# Altium integrated library Analog Devices Data Converters Analog-to-Digital Converters.IntLib: 2400 symbols (part 319 of 338)
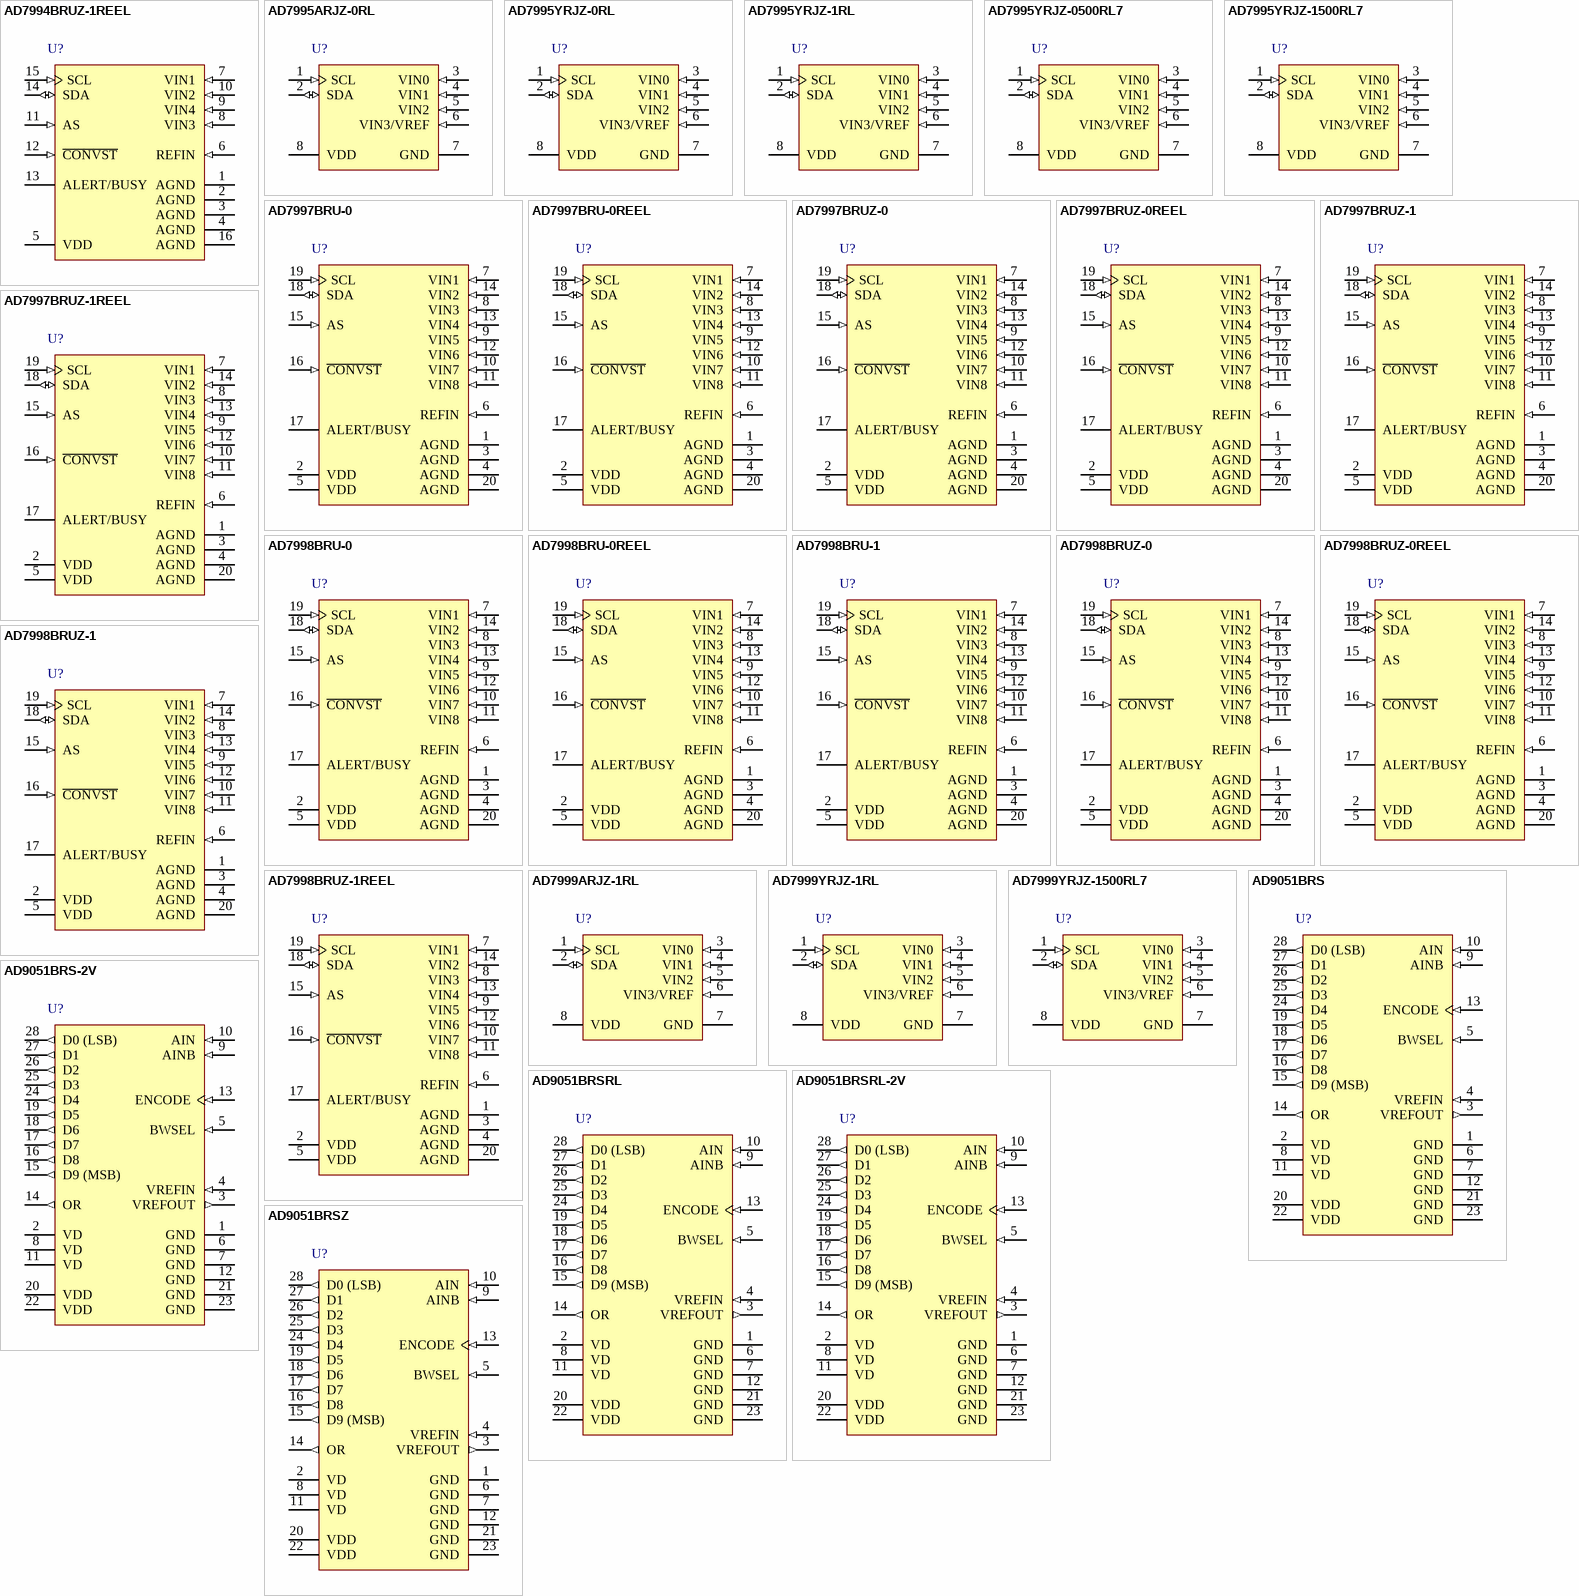
[diagram p329: symbols AD7994BRUZ-1REEL to AD9051BRSZ]

## AD7997BRUZ-1REEL
designator U?
Octal 10-Bit Analog-to-Digital Converter with I2C / Serial 2-Wire, Serial Interface, 79KSPS, -40 to +85 degC, RU-20, Pb-Free, Reel; Part Number: AD7997; Manufacturer: Analog Devices; Resolution (Bits): 10; Channels: 8; Throughput Rate (SPS): 79K; Interface: I2C/Ser 2-Wire, Ser; DatasheetVersion: Rev.0; PackageVersion: 2000; PackageReference: RU-20; PackageDescription: 20-Lead Thin Shrink Small Outline Package [TSSOP]; RoHS: Y; Packing: Reel; Mounting Technology: Surface Mount; Code_JEDEC: MO-153AC; ComponentLink1Description: Manufacturer URL; ComponentLink1URL: http://www.analog.com/en/index.html; ComponentLink2Description: Datasheet; ComponentLink2URL: http://www.analog.com/static/imported-files/data_sheets/AD7997_7998.pdf; ComponentLink3Description: Package Specification; ComponentLink3URL: http://www.analog.com/static/imported-files/packages/364515793657813558433715854054607941441RU20.pdf; ComponentLink4Description: Product URL; ComponentLink4URL: http://www.analog.com/en/analog-to-digital-converters/ad-converters/ad7997/products/product.html
footprint RU-20_N (TSOP, 20-Leads, Body 6.5x4.4mm, Pitch 0.65mm, IPC Medium Density)
footprint RU-20_L (TSOP, 20-Leads, Body 6.5x4.4mm, Pitch 0.65mm, IPC High Density)
footprint RU-20_M (TSOP, 20-Leads, Body 6.5x4.4mm, Pitch 0.65mm, IPC Low Density)
pins: 1 AGND (power) "Analog Ground. Ground reference point for all circuitry on the AD7997/AD7998. All analog input signals should be referred to this AGND voltage.", 2 VDD (power) "Power Supply Input. The VDD range for the AD7997/AD7998 is from 2.7 V to 5.5 V.", 3 AGND (power) "Analog Ground. Ground reference point for all circuitry on the AD7997/AD7998. All analog input signals should be referred to this AGND voltage.", 4 AGND (power) "Analog Ground. Ground reference point for all circuitry on the AD7997/AD7998. All analog input signals should be referred to this AGND voltage.", 5 VDD (power) "Power Supply Input. The VDD range for the AD7997/AD7998 is from 2.7 V to 5.5 V.", 6 REFIN (in) "Voltage Reference Input. The external reference for the AD7997/AD7998 should be applied to this input pin. The voltage range for the external reference is 1.2 V to VDD. A 0.1 uF and 1 uF capacitors should be placed between (See Datasheet)", 7 VIN1 (in) "Analog Input 1. Single-ended analog input channel. The input range is 0 V to REFIN.", 8 VIN3 (in) "Analog Input 3. Single-ended analog input channel. The input range is 0 V to REFIN.", 9 VIN5 (in) "Analog Input 5. Single-ended analog input channel. The input range is 0 V to REFIN.", 10 VIN7 (in) "Analog Input 7. Single-ended analog input channel. The input range is 0 V to REFIN.", 11 VIN8 (in) "Analog Input 8. Single-ended analog input channel. The input range is 0 V to REFIN.", 12 VIN6 (in) "Analog Input 6. Single-ended analog input channel. The input range is 0 V to REFIN.", 13 VIN4 (in) "Analog Input 4. Single-ended analog input channel. The input range is 0 V to REFIN.", 14 VIN2 (in) "Analog Input 2. Single-ended analog input channel. The input range is 0 V to REFIN.", 15 AS (in) "Logic Input. Address select input that selects one of three I2C addresses for the AD7997/AD7998, as shown in Table 6. The device address depends on the voltage applied to this pin.", 16 ~{CONVST} (in) "Logic Input Signal. Convert start signal. This is an edge-triggered logic input. The rising edge of this signal powers up the part. The power-up time for the part is 1 us. The falling edge of C\O\N\V\S\T\ places the (See Datasheet)", 17 ALERT/BUSY (oc) "Digital Output. Selectable as an ALERT or BUSY output function. When configured as an ALERT, this pin acts as an out-of-range indicator and, if enabled, becomes active when the conversion result violates the DATAHIGH or (See Datasheet)", 18 SDA (io) "Digital I/O. Serial bus bidirectional data. Open-drain output. External pull-up resistor required.", 19 SCL (in) "Digital Input. Serial bus clock. Open-drain input. External pull-up resistor required.", 20 AGND (power) "Analog Ground. Ground reference point for all circuitry on the AD7997/AD7998. All analog input signals should be referred to this AGND voltage."

## AD7998BRU-0
designator U?
Octal 12-Bit Analog-to-Digital Converter with I2C / Serial 2-Wire, Serialial Interface, 79KSPS, -40 to +85 degC, RU-20, Tube; Part Number: AD7998; Manufacturer: Analog Devices; Resolution (Bits): 12; Channels: 8; Throughput Rate (SPS): 79K; Interface: I2C/Ser 2-Wire, Ser; DatasheetVersion: Rev.0; PackageVersion: 2000; PackageReference: RU-20; PackageDescription: 20-Lead Thin Shrink Small Outline Package [TSSOP]; RoHS: N; Packing: Tube; Mounting Technology: Surface Mount; Code_JEDEC: MO-153AC; ComponentLink1Description: Manufacturer URL; ComponentLink1URL: http://www.analog.com/en/index.html; ComponentLink2Description: Datasheet; ComponentLink2URL: http://www.analog.com/static/imported-files/data_sheets/AD7997_7998.pdf; ComponentLink3Description: Package Specification; ComponentLink3URL: http://www.analog.com/static/imported-files/packages/364515793657813558433715854054607941441RU20.pdf; ComponentLink4Description: Product URL; ComponentLink4URL: http://www.analog.com/en/analog-to-digital-converters/ad-converters/ad7998/products/product.html
footprint RU-20_N (TSOP, 20-Leads, Body 6.5x4.4mm, Pitch 0.65mm, IPC Medium Density)
footprint RU-20_L (TSOP, 20-Leads, Body 6.5x4.4mm, Pitch 0.65mm, IPC High Density)
footprint RU-20_M (TSOP, 20-Leads, Body 6.5x4.4mm, Pitch 0.65mm, IPC Low Density)
pins: 1 AGND (power) "Analog Ground. Ground reference point for all circuitry on the AD7997/AD7998. All analog input signals should be referred to this AGND voltage.", 2 VDD (power) "Power Supply Input. The VDD range for the AD7997/AD7998 is from 2.7 V to 5.5 V.", 3 AGND (power) "Analog Ground. Ground reference point for all circuitry on the AD7997/AD7998. All analog input signals should be referred to this AGND voltage.", 4 AGND (power) "Analog Ground. Ground reference point for all circuitry on the AD7997/AD7998. All analog input signals should be referred to this AGND voltage.", 5 VDD (power) "Power Supply Input. The VDD range for the AD7997/AD7998 is from 2.7 V to 5.5 V.", 6 REFIN (in) "Voltage Reference Input. The external reference for the AD7997/AD7998 should be applied to this input pin. The voltage range for the external reference is 1.2 V to VDD. A 0.1 uF and 1 uF capacitors should be placed between (See Datasheet)", 7 VIN1 (in) "Analog Input 1. Single-ended analog input channel. The input range is 0 V to REFIN.", 8 VIN3 (in) "Analog Input 3. Single-ended analog input channel. The input range is 0 V to REFIN.", 9 VIN5 (in) "Analog Input 5. Single-ended analog input channel. The input range is 0 V to REFIN.", 10 VIN7 (in) "Analog Input 7. Single-ended analog input channel. The input range is 0 V to REFIN.", 11 VIN8 (in) "Analog Input 8. Single-ended analog input channel. The input range is 0 V to REFIN.", 12 VIN6 (in) "Analog Input 6. Single-ended analog input channel. The input range is 0 V to REFIN.", 13 VIN4 (in) "Analog Input 4. Single-ended analog input channel. The input range is 0 V to REFIN.", 14 VIN2 (in) "Analog Input 2. Single-ended analog input channel. The input range is 0 V to REFIN.", 15 AS (in) "Logic Input. Address select input that selects one of three I2C addresses for the AD7997/AD7998, as shown in Table 6. The device address depends on the voltage applied to this pin.", 16 ~{CONVST} (in) "Logic Input Signal. Convert start signal. This is an edge-triggered logic input. The rising edge of this signal powers up the part. The power-up time for the part is 1 us. The falling edge of C\O\N\V\S\T\ places the (See Datasheet)", 17 ALERT/BUSY (oc) "Digital Output. Selectable as an ALERT or BUSY output function. When configured as an ALERT, this pin acts as an out-of-range indicator and, if enabled, becomes active when the conversion result violates the DATAHIGH or (See Datasheet)", 18 SDA (io) "Digital I/O. Serial bus bidirectional data. Open-drain output. External pull-up resistor required.", 19 SCL (in) "Digital Input. Serial bus clock. Open-drain input. External pull-up resistor required.", 20 AGND (power) "Analog Ground. Ground reference point for all circuitry on the AD7997/AD7998. All analog input signals should be referred to this AGND voltage."

## AD7998BRU-0REEL
designator U?
Octal 12-Bit Analog-to-Digital Converter with I2C / Serial 2-Wire, Serialial Interface, 79KSPS, -40 to +85 degC, RU-20, Reel; Part Number: AD7998; Manufacturer: Analog Devices; Resolution (Bits): 12; Channels: 8; Throughput Rate (SPS): 79K; Interface: I2C/Ser 2-Wire, Ser; DatasheetVersion: Rev.0; PackageVersion: 2000; PackageReference: RU-20; PackageDescription: 20-Lead Thin Shrink Small Outline Package [TSSOP]; RoHS: N; Packing: Reel; Mounting Technology: Surface Mount; Code_JEDEC: MO-153AC; ComponentLink1Description: Manufacturer URL; ComponentLink1URL: http://www.analog.com/en/index.html; ComponentLink2Description: Datasheet; ComponentLink2URL: http://www.analog.com/static/imported-files/data_sheets/AD7997_7998.pdf; ComponentLink3Description: Package Specification; ComponentLink3URL: http://www.analog.com/static/imported-files/packages/364515793657813558433715854054607941441RU20.pdf; ComponentLink4Description: Product URL; ComponentLink4URL: http://www.analog.com/en/analog-to-digital-converters/ad-converters/ad7998/products/product.html
footprint RU-20_N (TSOP, 20-Leads, Body 6.5x4.4mm, Pitch 0.65mm, IPC Medium Density)
footprint RU-20_L (TSOP, 20-Leads, Body 6.5x4.4mm, Pitch 0.65mm, IPC High Density)
footprint RU-20_M (TSOP, 20-Leads, Body 6.5x4.4mm, Pitch 0.65mm, IPC Low Density)
pins: 1 AGND (power) "Analog Ground. Ground reference point for all circuitry on the AD7997/AD7998. All analog input signals should be referred to this AGND voltage.", 2 VDD (power) "Power Supply Input. The VDD range for the AD7997/AD7998 is from 2.7 V to 5.5 V.", 3 AGND (power) "Analog Ground. Ground reference point for all circuitry on the AD7997/AD7998. All analog input signals should be referred to this AGND voltage.", 4 AGND (power) "Analog Ground. Ground reference point for all circuitry on the AD7997/AD7998. All analog input signals should be referred to this AGND voltage.", 5 VDD (power) "Power Supply Input. The VDD range for the AD7997/AD7998 is from 2.7 V to 5.5 V.", 6 REFIN (in) "Voltage Reference Input. The external reference for the AD7997/AD7998 should be applied to this input pin. The voltage range for the external reference is 1.2 V to VDD. A 0.1 uF and 1 uF capacitors should be placed between (See Datasheet)", 7 VIN1 (in) "Analog Input 1. Single-ended analog input channel. The input range is 0 V to REFIN.", 8 VIN3 (in) "Analog Input 3. Single-ended analog input channel. The input range is 0 V to REFIN.", 9 VIN5 (in) "Analog Input 5. Single-ended analog input channel. The input range is 0 V to REFIN.", 10 VIN7 (in) "Analog Input 7. Single-ended analog input channel. The input range is 0 V to REFIN.", 11 VIN8 (in) "Analog Input 8. Single-ended analog input channel. The input range is 0 V to REFIN.", 12 VIN6 (in) "Analog Input 6. Single-ended analog input channel. The input range is 0 V to REFIN.", 13 VIN4 (in) "Analog Input 4. Single-ended analog input channel. The input range is 0 V to REFIN.", 14 VIN2 (in) "Analog Input 2. Single-ended analog input channel. The input range is 0 V to REFIN.", 15 AS (in) "Logic Input. Address select input that selects one of three I2C addresses for the AD7997/AD7998, as shown in Table 6. The device address depends on the voltage applied to this pin.", 16 ~{CONVST} (in) "Logic Input Signal. Convert start signal. This is an edge-triggered logic input. The rising edge of this signal powers up the part. The power-up time for the part is 1 us. The falling edge of C\O\N\V\S\T\ places the (See Datasheet)", 17 ALERT/BUSY (oc) "Digital Output. Selectable as an ALERT or BUSY output function. When configured as an ALERT, this pin acts as an out-of-range indicator and, if enabled, becomes active when the conversion result violates the DATAHIGH or (See Datasheet)", 18 SDA (io) "Digital I/O. Serial bus bidirectional data. Open-drain output. External pull-up resistor required.", 19 SCL (in) "Digital Input. Serial bus clock. Open-drain input. External pull-up resistor required.", 20 AGND (power) "Analog Ground. Ground reference point for all circuitry on the AD7997/AD7998. All analog input signals should be referred to this AGND voltage."

## AD7998BRU-1
designator U?
Octal 12-Bit Analog-to-Digital Converter with I2C / Serial 2-Wire, Serialial Interface, 79KSPS, -40 to +85 degC, RU-20, Tube; Part Number: AD7998; Manufacturer: Analog Devices; Resolution (Bits): 12; Channels: 8; Throughput Rate (SPS): 79K; Interface: I2C/Ser 2-Wire, Ser; DatasheetVersion: Rev.0; PackageVersion: 2000; PackageReference: RU-20; PackageDescription: 20-Lead Thin Shrink Small Outline Package [TSSOP]; RoHS: N; Packing: Tube; Mounting Technology: Surface Mount; Code_JEDEC: MO-153AC; ComponentLink1Description: Manufacturer URL; ComponentLink1URL: http://www.analog.com/en/index.html; ComponentLink2Description: Datasheet; ComponentLink2URL: http://www.analog.com/static/imported-files/data_sheets/AD7997_7998.pdf; ComponentLink3Description: Package Specification; ComponentLink3URL: http://www.analog.com/static/imported-files/packages/364515793657813558433715854054607941441RU20.pdf; ComponentLink4Description: Product URL; ComponentLink4URL: http://www.analog.com/en/analog-to-digital-converters/ad-converters/ad7998/products/product.html
footprint RU-20_N (TSOP, 20-Leads, Body 6.5x4.4mm, Pitch 0.65mm, IPC Medium Density)
footprint RU-20_L (TSOP, 20-Leads, Body 6.5x4.4mm, Pitch 0.65mm, IPC High Density)
footprint RU-20_M (TSOP, 20-Leads, Body 6.5x4.4mm, Pitch 0.65mm, IPC Low Density)
pins: 1 AGND (power) "Analog Ground. Ground reference point for all circuitry on the AD7997/AD7998. All analog input signals should be referred to this AGND voltage.", 2 VDD (power) "Power Supply Input. The VDD range for the AD7997/AD7998 is from 2.7 V to 5.5 V.", 3 AGND (power) "Analog Ground. Ground reference point for all circuitry on the AD7997/AD7998. All analog input signals should be referred to this AGND voltage.", 4 AGND (power) "Analog Ground. Ground reference point for all circuitry on the AD7997/AD7998. All analog input signals should be referred to this AGND voltage.", 5 VDD (power) "Power Supply Input. The VDD range for the AD7997/AD7998 is from 2.7 V to 5.5 V.", 6 REFIN (in) "Voltage Reference Input. The external reference for the AD7997/AD7998 should be applied to this input pin. The voltage range for the external reference is 1.2 V to VDD. A 0.1 uF and 1 uF capacitors should be placed between (See Datasheet)", 7 VIN1 (in) "Analog Input 1. Single-ended analog input channel. The input range is 0 V to REFIN.", 8 VIN3 (in) "Analog Input 3. Single-ended analog input channel. The input range is 0 V to REFIN.", 9 VIN5 (in) "Analog Input 5. Single-ended analog input channel. The input range is 0 V to REFIN.", 10 VIN7 (in) "Analog Input 7. Single-ended analog input channel. The input range is 0 V to REFIN.", 11 VIN8 (in) "Analog Input 8. Single-ended analog input channel. The input range is 0 V to REFIN.", 12 VIN6 (in) "Analog Input 6. Single-ended analog input channel. The input range is 0 V to REFIN.", 13 VIN4 (in) "Analog Input 4. Single-ended analog input channel. The input range is 0 V to REFIN.", 14 VIN2 (in) "Analog Input 2. Single-ended analog input channel. The input range is 0 V to REFIN.", 15 AS (in) "Logic Input. Address select input that selects one of three I2C addresses for the AD7997/AD7998, as shown in Table 6. The device address depends on the voltage applied to this pin.", 16 ~{CONVST} (in) "Logic Input Signal. Convert start signal. This is an edge-triggered logic input. The rising edge of this signal powers up the part. The power-up time for the part is 1 us. The falling edge of C\O\N\V\S\T\ places the (See Datasheet)", 17 ALERT/BUSY (oc) "Digital Output. Selectable as an ALERT or BUSY output function. When configured as an ALERT, this pin acts as an out-of-range indicator and, if enabled, becomes active when the conversion result violates the DATAHIGH or (See Datasheet)", 18 SDA (io) "Digital I/O. Serial bus bidirectional data. Open-drain output. External pull-up resistor required.", 19 SCL (in) "Digital Input. Serial bus clock. Open-drain input. External pull-up resistor required.", 20 AGND (power) "Analog Ground. Ground reference point for all circuitry on the AD7997/AD7998. All analog input signals should be referred to this AGND voltage."

## AD7998BRUZ-0
designator U?
Octal 12-Bit Analog-to-Digital Converter with I2C / Serial 2-Wire, Serialial Interface, 79KSPS, -40 to +85 degC, RU-20, Pb-Free, Tube; Part Number: AD7998; Manufacturer: Analog Devices; Resolution (Bits): 12; Channels: 8; Throughput Rate (SPS): 79K; Interface: I2C/Ser 2-Wire, Ser; DatasheetVersion: Rev.0; PackageVersion: 2000; PackageReference: RU-20; PackageDescription: 20-Lead Thin Shrink Small Outline Package [TSSOP]; RoHS: Y; Packing: Tube; Mounting Technology: Surface Mount; Code_JEDEC: MO-153AC; ComponentLink1Description: Manufacturer URL; ComponentLink1URL: http://www.analog.com/en/index.html; ComponentLink2Description: Datasheet; ComponentLink2URL: http://www.analog.com/static/imported-files/data_sheets/AD7997_7998.pdf; ComponentLink3Description: Package Specification; ComponentLink3URL: http://www.analog.com/static/imported-files/packages/364515793657813558433715854054607941441RU20.pdf; ComponentLink4Description: Product URL; ComponentLink4URL: http://www.analog.com/en/analog-to-digital-converters/ad-converters/ad7998/products/product.html
footprint RU-20_N (TSOP, 20-Leads, Body 6.5x4.4mm, Pitch 0.65mm, IPC Medium Density)
footprint RU-20_L (TSOP, 20-Leads, Body 6.5x4.4mm, Pitch 0.65mm, IPC High Density)
footprint RU-20_M (TSOP, 20-Leads, Body 6.5x4.4mm, Pitch 0.65mm, IPC Low Density)
pins: 1 AGND (power) "Analog Ground. Ground reference point for all circuitry on the AD7997/AD7998. All analog input signals should be referred to this AGND voltage.", 2 VDD (power) "Power Supply Input. The VDD range for the AD7997/AD7998 is from 2.7 V to 5.5 V.", 3 AGND (power) "Analog Ground. Ground reference point for all circuitry on the AD7997/AD7998. All analog input signals should be referred to this AGND voltage.", 4 AGND (power) "Analog Ground. Ground reference point for all circuitry on the AD7997/AD7998. All analog input signals should be referred to this AGND voltage.", 5 VDD (power) "Power Supply Input. The VDD range for the AD7997/AD7998 is from 2.7 V to 5.5 V.", 6 REFIN (in) "Voltage Reference Input. The external reference for the AD7997/AD7998 should be applied to this input pin. The voltage range for the external reference is 1.2 V to VDD. A 0.1 uF and 1 uF capacitors should be placed between (See Datasheet)", 7 VIN1 (in) "Analog Input 1. Single-ended analog input channel. The input range is 0 V to REFIN.", 8 VIN3 (in) "Analog Input 3. Single-ended analog input channel. The input range is 0 V to REFIN.", 9 VIN5 (in) "Analog Input 5. Single-ended analog input channel. The input range is 0 V to REFIN.", 10 VIN7 (in) "Analog Input 7. Single-ended analog input channel. The input range is 0 V to REFIN.", 11 VIN8 (in) "Analog Input 8. Single-ended analog input channel. The input range is 0 V to REFIN.", 12 VIN6 (in) "Analog Input 6. Single-ended analog input channel. The input range is 0 V to REFIN.", 13 VIN4 (in) "Analog Input 4. Single-ended analog input channel. The input range is 0 V to REFIN.", 14 VIN2 (in) "Analog Input 2. Single-ended analog input channel. The input range is 0 V to REFIN.", 15 AS (in) "Logic Input. Address select input that selects one of three I2C addresses for the AD7997/AD7998, as shown in Table 6. The device address depends on the voltage applied to this pin.", 16 ~{CONVST} (in) "Logic Input Signal. Convert start signal. This is an edge-triggered logic input. The rising edge of this signal powers up the part. The power-up time for the part is 1 us. The falling edge of C\O\N\V\S\T\ places the (See Datasheet)", 17 ALERT/BUSY (oc) "Digital Output. Selectable as an ALERT or BUSY output function. When configured as an ALERT, this pin acts as an out-of-range indicator and, if enabled, becomes active when the conversion result violates the DATAHIGH or (See Datasheet)", 18 SDA (io) "Digital I/O. Serial bus bidirectional data. Open-drain output. External pull-up resistor required.", 19 SCL (in) "Digital Input. Serial bus clock. Open-drain input. External pull-up resistor required.", 20 AGND (power) "Analog Ground. Ground reference point for all circuitry on the AD7997/AD7998. All analog input signals should be referred to this AGND voltage."

## AD7998BRUZ-0REEL
designator U?
Octal 12-Bit Analog-to-Digital Converter with I2C / Serial 2-Wire, Serialial Interface, 79KSPS, -40 to +85 degC, RU-20, Pb-Free, Reel; Part Number: AD7998; Manufacturer: Analog Devices; Resolution (Bits): 12; Channels: 8; Throughput Rate (SPS): 79K; Interface: I2C/Ser 2-Wire, Ser; DatasheetVersion: Rev.0; PackageVersion: 2000; PackageReference: RU-20; PackageDescription: 20-Lead Thin Shrink Small Outline Package [TSSOP]; RoHS: Y; Packing: Reel; Mounting Technology: Surface Mount; Code_JEDEC: MO-153AC; ComponentLink1Description: Manufacturer URL; ComponentLink1URL: http://www.analog.com/en/index.html; ComponentLink2Description: Datasheet; ComponentLink2URL: http://www.analog.com/static/imported-files/data_sheets/AD7997_7998.pdf; ComponentLink3Description: Package Specification; ComponentLink3URL: http://www.analog.com/static/imported-files/packages/364515793657813558433715854054607941441RU20.pdf; ComponentLink4Description: Product URL; ComponentLink4URL: http://www.analog.com/en/analog-to-digital-converters/ad-converters/ad7998/products/product.html
footprint RU-20_N (TSOP, 20-Leads, Body 6.5x4.4mm, Pitch 0.65mm, IPC Medium Density)
footprint RU-20_L (TSOP, 20-Leads, Body 6.5x4.4mm, Pitch 0.65mm, IPC High Density)
footprint RU-20_M (TSOP, 20-Leads, Body 6.5x4.4mm, Pitch 0.65mm, IPC Low Density)
pins: 1 AGND (power) "Analog Ground. Ground reference point for all circuitry on the AD7997/AD7998. All analog input signals should be referred to this AGND voltage.", 2 VDD (power) "Power Supply Input. The VDD range for the AD7997/AD7998 is from 2.7 V to 5.5 V.", 3 AGND (power) "Analog Ground. Ground reference point for all circuitry on the AD7997/AD7998. All analog input signals should be referred to this AGND voltage.", 4 AGND (power) "Analog Ground. Ground reference point for all circuitry on the AD7997/AD7998. All analog input signals should be referred to this AGND voltage.", 5 VDD (power) "Power Supply Input. The VDD range for the AD7997/AD7998 is from 2.7 V to 5.5 V.", 6 REFIN (in) "Voltage Reference Input. The external reference for the AD7997/AD7998 should be applied to this input pin. The voltage range for the external reference is 1.2 V to VDD. A 0.1 uF and 1 uF capacitors should be placed between (See Datasheet)", 7 VIN1 (in) "Analog Input 1. Single-ended analog input channel. The input range is 0 V to REFIN.", 8 VIN3 (in) "Analog Input 3. Single-ended analog input channel. The input range is 0 V to REFIN.", 9 VIN5 (in) "Analog Input 5. Single-ended analog input channel. The input range is 0 V to REFIN.", 10 VIN7 (in) "Analog Input 7. Single-ended analog input channel. The input range is 0 V to REFIN.", 11 VIN8 (in) "Analog Input 8. Single-ended analog input channel. The input range is 0 V to REFIN.", 12 VIN6 (in) "Analog Input 6. Single-ended analog input channel. The input range is 0 V to REFIN.", 13 VIN4 (in) "Analog Input 4. Single-ended analog input channel. The input range is 0 V to REFIN.", 14 VIN2 (in) "Analog Input 2. Single-ended analog input channel. The input range is 0 V to REFIN.", 15 AS (in) "Logic Input. Address select input that selects one of three I2C addresses for the AD7997/AD7998, as shown in Table 6. The device address depends on the voltage applied to this pin.", 16 ~{CONVST} (in) "Logic Input Signal. Convert start signal. This is an edge-triggered logic input. The rising edge of this signal powers up the part. The power-up time for the part is 1 us. The falling edge of C\O\N\V\S\T\ places the (See Datasheet)", 17 ALERT/BUSY (oc) "Digital Output. Selectable as an ALERT or BUSY output function. When configured as an ALERT, this pin acts as an out-of-range indicator and, if enabled, becomes active when the conversion result violates the DATAHIGH or (See Datasheet)", 18 SDA (io) "Digital I/O. Serial bus bidirectional data. Open-drain output. External pull-up resistor required.", 19 SCL (in) "Digital Input. Serial bus clock. Open-drain input. External pull-up resistor required.", 20 AGND (power) "Analog Ground. Ground reference point for all circuitry on the AD7997/AD7998. All analog input signals should be referred to this AGND voltage."

## AD7998BRUZ-1
designator U?
Octal 12-Bit Analog-to-Digital Converter with I2C / Serial 2-Wire, Serialial Interface, 79KSPS, -40 to +85 degC, RU-20, Pb-Free, Tube; Part Number: AD7998; Manufacturer: Analog Devices; Resolution (Bits): 12; Channels: 8; Throughput Rate (SPS): 79K; Interface: I2C/Ser 2-Wire, Ser; DatasheetVersion: Rev.0; PackageVersion: 2000; PackageReference: RU-20; PackageDescription: 20-Lead Thin Shrink Small Outline Package [TSSOP]; RoHS: Y; Packing: Tube; Mounting Technology: Surface Mount; Code_JEDEC: MO-153AC; ComponentLink1Description: Manufacturer URL; ComponentLink1URL: http://www.analog.com/en/index.html; ComponentLink2Description: Datasheet; ComponentLink2URL: http://www.analog.com/static/imported-files/data_sheets/AD7997_7998.pdf; ComponentLink3Description: Package Specification; ComponentLink3URL: http://www.analog.com/static/imported-files/packages/364515793657813558433715854054607941441RU20.pdf; ComponentLink4Description: Product URL; ComponentLink4URL: http://www.analog.com/en/analog-to-digital-converters/ad-converters/ad7998/products/product.html
footprint RU-20_N (TSOP, 20-Leads, Body 6.5x4.4mm, Pitch 0.65mm, IPC Medium Density)
footprint RU-20_L (TSOP, 20-Leads, Body 6.5x4.4mm, Pitch 0.65mm, IPC High Density)
footprint RU-20_M (TSOP, 20-Leads, Body 6.5x4.4mm, Pitch 0.65mm, IPC Low Density)
pins: 1 AGND (power) "Analog Ground. Ground reference point for all circuitry on the AD7997/AD7998. All analog input signals should be referred to this AGND voltage.", 2 VDD (power) "Power Supply Input. The VDD range for the AD7997/AD7998 is from 2.7 V to 5.5 V.", 3 AGND (power) "Analog Ground. Ground reference point for all circuitry on the AD7997/AD7998. All analog input signals should be referred to this AGND voltage.", 4 AGND (power) "Analog Ground. Ground reference point for all circuitry on the AD7997/AD7998. All analog input signals should be referred to this AGND voltage.", 5 VDD (power) "Power Supply Input. The VDD range for the AD7997/AD7998 is from 2.7 V to 5.5 V.", 6 REFIN (in) "Voltage Reference Input. The external reference for the AD7997/AD7998 should be applied to this input pin. The voltage range for the external reference is 1.2 V to VDD. A 0.1 uF and 1 uF capacitors should be placed between (See Datasheet)", 7 VIN1 (in) "Analog Input 1. Single-ended analog input channel. The input range is 0 V to REFIN.", 8 VIN3 (in) "Analog Input 3. Single-ended analog input channel. The input range is 0 V to REFIN.", 9 VIN5 (in) "Analog Input 5. Single-ended analog input channel. The input range is 0 V to REFIN.", 10 VIN7 (in) "Analog Input 7. Single-ended analog input channel. The input range is 0 V to REFIN.", 11 VIN8 (in) "Analog Input 8. Single-ended analog input channel. The input range is 0 V to REFIN.", 12 VIN6 (in) "Analog Input 6. Single-ended analog input channel. The input range is 0 V to REFIN.", 13 VIN4 (in) "Analog Input 4. Single-ended analog input channel. The input range is 0 V to REFIN.", 14 VIN2 (in) "Analog Input 2. Single-ended analog input channel. The input range is 0 V to REFIN.", 15 AS (in) "Logic Input. Address select input that selects one of three I2C addresses for the AD7997/AD7998, as shown in Table 6. The device address depends on the voltage applied to this pin.", 16 ~{CONVST} (in) "Logic Input Signal. Convert start signal. This is an edge-triggered logic input. The rising edge of this signal powers up the part. The power-up time for the part is 1 us. The falling edge of C\O\N\V\S\T\ places the (See Datasheet)", 17 ALERT/BUSY (oc) "Digital Output. Selectable as an ALERT or BUSY output function. When configured as an ALERT, this pin acts as an out-of-range indicator and, if enabled, becomes active when the conversion result violates the DATAHIGH or (See Datasheet)", 18 SDA (io) "Digital I/O. Serial bus bidirectional data. Open-drain output. External pull-up resistor required.", 19 SCL (in) "Digital Input. Serial bus clock. Open-drain input. External pull-up resistor required.", 20 AGND (power) "Analog Ground. Ground reference point for all circuitry on the AD7997/AD7998. All analog input signals should be referred to this AGND voltage."

## AD7998BRUZ-1REEL
designator U?
Octal 12-Bit Analog-to-Digital Converter with I2C / Serial 2-Wire, Serialial Interface, 79KSPS, -40 to +85 degC, RU-20, Pb-Free, Reel; Part Number: AD7998; Manufacturer: Analog Devices; Resolution (Bits): 12; Channels: 8; Throughput Rate (SPS): 79K; Interface: I2C/Ser 2-Wire, Ser; DatasheetVersion: Rev.0; PackageVersion: 2000; PackageReference: RU-20; PackageDescription: 20-Lead Thin Shrink Small Outline Package [TSSOP]; RoHS: Y; Packing: Reel; Mounting Technology: Surface Mount; Code_JEDEC: MO-153AC; ComponentLink1Description: Manufacturer URL; ComponentLink1URL: http://www.analog.com/en/index.html; ComponentLink2Description: Datasheet; ComponentLink2URL: http://www.analog.com/static/imported-files/data_sheets/AD7997_7998.pdf; ComponentLink3Description: Package Specification; ComponentLink3URL: http://www.analog.com/static/imported-files/packages/364515793657813558433715854054607941441RU20.pdf; ComponentLink4Description: Product URL; ComponentLink4URL: http://www.analog.com/en/analog-to-digital-converters/ad-converters/ad7998/products/product.html
footprint RU-20_N (TSOP, 20-Leads, Body 6.5x4.4mm, Pitch 0.65mm, IPC Medium Density)
footprint RU-20_L (TSOP, 20-Leads, Body 6.5x4.4mm, Pitch 0.65mm, IPC High Density)
footprint RU-20_M (TSOP, 20-Leads, Body 6.5x4.4mm, Pitch 0.65mm, IPC Low Density)
pins: 1 AGND (power) "Analog Ground. Ground reference point for all circuitry on the AD7997/AD7998. All analog input signals should be referred to this AGND voltage.", 2 VDD (power) "Power Supply Input. The VDD range for the AD7997/AD7998 is from 2.7 V to 5.5 V.", 3 AGND (power) "Analog Ground. Ground reference point for all circuitry on the AD7997/AD7998. All analog input signals should be referred to this AGND voltage.", 4 AGND (power) "Analog Ground. Ground reference point for all circuitry on the AD7997/AD7998. All analog input signals should be referred to this AGND voltage.", 5 VDD (power) "Power Supply Input. The VDD range for the AD7997/AD7998 is from 2.7 V to 5.5 V.", 6 REFIN (in) "Voltage Reference Input. The external reference for the AD7997/AD7998 should be applied to this input pin. The voltage range for the external reference is 1.2 V to VDD. A 0.1 uF and 1 uF capacitors should be placed between (See Datasheet)", 7 VIN1 (in) "Analog Input 1. Single-ended analog input channel. The input range is 0 V to REFIN.", 8 VIN3 (in) "Analog Input 3. Single-ended analog input channel. The input range is 0 V to REFIN.", 9 VIN5 (in) "Analog Input 5. Single-ended analog input channel. The input range is 0 V to REFIN.", 10 VIN7 (in) "Analog Input 7. Single-ended analog input channel. The input range is 0 V to REFIN.", 11 VIN8 (in) "Analog Input 8. Single-ended analog input channel. The input range is 0 V to REFIN.", 12 VIN6 (in) "Analog Input 6. Single-ended analog input channel. The input range is 0 V to REFIN.", 13 VIN4 (in) "Analog Input 4. Single-ended analog input channel. The input range is 0 V to REFIN.", 14 VIN2 (in) "Analog Input 2. Single-ended analog input channel. The input range is 0 V to REFIN.", 15 AS (in) "Logic Input. Address select input that selects one of three I2C addresses for the AD7997/AD7998, as shown in Table 6. The device address depends on the voltage applied to this pin.", 16 ~{CONVST} (in) "Logic Input Signal. Convert start signal. This is an edge-triggered logic input. The rising edge of this signal powers up the part. The power-up time for the part is 1 us. The falling edge of C\O\N\V\S\T\ places the (See Datasheet)", 17 ALERT/BUSY (oc) "Digital Output. Selectable as an ALERT or BUSY output function. When configured as an ALERT, this pin acts as an out-of-range indicator and, if enabled, becomes active when the conversion result violates the DATAHIGH or (See Datasheet)", 18 SDA (io) "Digital I/O. Serial bus bidirectional data. Open-drain output. External pull-up resistor required.", 19 SCL (in) "Digital Input. Serial bus clock. Open-drain input. External pull-up resistor required.", 20 AGND (power) "Analog Ground. Ground reference point for all circuitry on the AD7997/AD7998. All analog input signals should be referred to this AGND voltage."

## AD7999ARJZ-1RL
designator U?
Quad 8-Bit Analog-to-Digital Converter with I2C, Serial 2-Wire Interface, 140KSPS, -40 to +125 degC, RJ-8, Pb-Free, Reel; Part Number: AD7999; Manufacturer: Analog Devices; Resolution (Bits): 8; Channels: 4; Throughput Rate (SPS): 140K; Interface: I2C/Ser 2-Wire; DatasheetVersion: Rev.B; PackageVersion: 121608-A; PackageReference: RJ-8; PackageDescription: 8-Lead Thin Small Outline Transistor Package [SOT-23]; RoHS: Y; Packing: Reel; Mounting Technology: Surface Mount; Code_JEDEC: MO-178-BA; ComponentLink1Description: Manufacturer URL; ComponentLink1URL: http://www.analog.com/en/index.html; ComponentLink2Description: Datasheet; ComponentLink2URL: http://www.analog.com/static/imported-files/data_sheets/AD7991_7995_7999.pdf; ComponentLink3Description: Package Specification; ComponentLink3URL: http://www.analog.com/static/imported-files/packages/PKG_PDF/SOT-23(RJ)/RJ_8.pdf; ComponentLink4Description: Product URL; ComponentLink4URL: http://www.analog.com/en/analog-to-digital-converters/ad-converters/ad7999/products/product.html
footprint RJ-8_N (SOP, 8-Leads, Body 2.9x1.6mm, Pitch 0.65mm, IPC Medium Density)
footprint RJ-8_L (SOP, 8-Leads, Body 2.9x1.6mm, Pitch 0.65mm, IPC High Density)
footprint RJ-8_M (SOP, 8-Leads, Body 2.9x1.6mm, Pitch 0.65mm, IPC Low Density)
pins: 1 SCL (in) "Digital Input. Serial bus clock. External pull-up resistor required.", 2 SDA (io) "Digital I/O. Serial bus bidirectional data. Open-drain output. External pull-up resistor required.", 3 VIN0 (in) "Analog Input 1. Single-ended analog input channel. The input range is 0 V to VREF.", 4 VIN1 (in) "Analog Input 2. Single-ended analog input channel. The input range is 0 V to VREF.", 5 VIN2 (in) "Analog Input 3. Single-ended analog input channel. The input range is 0 V to VREF.", 6 VIN3/VREF (in) "Analog Input 4. Single-ended analog input channel. The input range is 0 V to VREF. Can also be used to input an external VREF signal.", 7 GND (power) "Analog Ground. Ground reference point for all circuitry on the AD7991/AD7995/AD7999. All analog input signals should be referred to this AGND voltage.", 8 VDD (power) "Power Supply Input. The VDD range for the AD7991/AD7995/AD7999 is from 2.7 V to 5.5 V."

## AD7999YRJZ-1RL
designator U?
Quad 8-Bit Analog-to-Digital Converter with I2C, Serial 2-Wire Interface, 140KSPS, -40 to +125 degC, RJ-8, Pb-Free, Reel; Part Number: AD7999; Manufacturer: Analog Devices; Resolution (Bits): 8; Channels: 4; Throughput Rate (SPS): 140K; Interface: I2C/Ser 2-Wire; DatasheetVersion: Rev.B; PackageVersion: 121608-A; PackageReference: RJ-8; PackageDescription: 8-Lead Thin Small Outline Transistor Package [SOT-23]; RoHS: Y; Packing: Reel; Mounting Technology: Surface Mount; Code_JEDEC: MO-178-BA; ComponentLink1Description: Manufacturer URL; ComponentLink1URL: http://www.analog.com/en/index.html; ComponentLink2Description: Datasheet; ComponentLink2URL: http://www.analog.com/static/imported-files/data_sheets/AD7991_7995_7999.pdf; ComponentLink3Description: Package Specification; ComponentLink3URL: http://www.analog.com/static/imported-files/packages/PKG_PDF/SOT-23(RJ)/RJ_8.pdf; ComponentLink4Description: Product URL; ComponentLink4URL: http://www.analog.com/en/analog-to-digital-converters/ad-converters/ad7999/products/product.html
footprint RJ-8_N (SOP, 8-Leads, Body 2.9x1.6mm, Pitch 0.65mm, IPC Medium Density)
footprint RJ-8_L (SOP, 8-Leads, Body 2.9x1.6mm, Pitch 0.65mm, IPC High Density)
footprint RJ-8_M (SOP, 8-Leads, Body 2.9x1.6mm, Pitch 0.65mm, IPC Low Density)
pins: 1 SCL (in) "Digital Input. Serial bus clock. External pull-up resistor required.", 2 SDA (io) "Digital I/O. Serial bus bidirectional data. Open-drain output. External pull-up resistor required.", 3 VIN0 (in) "Analog Input 1. Single-ended analog input channel. The input range is 0 V to VREF.", 4 VIN1 (in) "Analog Input 2. Single-ended analog input channel. The input range is 0 V to VREF.", 5 VIN2 (in) "Analog Input 3. Single-ended analog input channel. The input range is 0 V to VREF.", 6 VIN3/VREF (in) "Analog Input 4. Single-ended analog input channel. The input range is 0 V to VREF. Can also be used to input an external VREF signal.", 7 GND (power) "Analog Ground. Ground reference point for all circuitry on the AD7991/AD7995/AD7999. All analog input signals should be referred to this AGND voltage.", 8 VDD (power) "Power Supply Input. The VDD range for the AD7991/AD7995/AD7999 is from 2.7 V to 5.5 V."

## AD7999YRJZ-1500RL7
designator U?
Quad 8-Bit Analog-to-Digital Converter with I2C, Serial 2-Wire Interface, 140KSPS, -40 to +125 degC, RJ-8, Pb-Free, Reel; Part Number: AD7999; Manufacturer: Analog Devices; Resolution (Bits): 8; Channels: 4; Throughput Rate (SPS): 140K; Interface: I2C/Ser 2-Wire; DatasheetVersion: Rev.B; PackageVersion: 121608-A; PackageReference: RJ-8; PackageDescription: 8-Lead Thin Small Outline Transistor Package [SOT-23]; RoHS: Y; Packing: Reel; Mounting Technology: Surface Mount; Code_JEDEC: MO-178-BA; ComponentLink1Description: Manufacturer URL; ComponentLink1URL: http://www.analog.com/en/index.html; ComponentLink2Description: Datasheet; ComponentLink2URL: http://www.analog.com/static/imported-files/data_sheets/AD7991_7995_7999.pdf; ComponentLink3Description: Package Specification; ComponentLink3URL: http://www.analog.com/static/imported-files/packages/PKG_PDF/SOT-23(RJ)/RJ_8.pdf; ComponentLink4Description: Product URL; ComponentLink4URL: http://www.analog.com/en/analog-to-digital-converters/ad-converters/ad7999/products/product.html
footprint RJ-8_N (SOP, 8-Leads, Body 2.9x1.6mm, Pitch 0.65mm, IPC Medium Density)
footprint RJ-8_L (SOP, 8-Leads, Body 2.9x1.6mm, Pitch 0.65mm, IPC High Density)
footprint RJ-8_M (SOP, 8-Leads, Body 2.9x1.6mm, Pitch 0.65mm, IPC Low Density)
pins: 1 SCL (in) "Digital Input. Serial bus clock. External pull-up resistor required.", 2 SDA (io) "Digital I/O. Serial bus bidirectional data. Open-drain output. External pull-up resistor required.", 3 VIN0 (in) "Analog Input 1. Single-ended analog input channel. The input range is 0 V to VREF.", 4 VIN1 (in) "Analog Input 2. Single-ended analog input channel. The input range is 0 V to VREF.", 5 VIN2 (in) "Analog Input 3. Single-ended analog input channel. The input range is 0 V to VREF.", 6 VIN3/VREF (in) "Analog Input 4. Single-ended analog input channel. The input range is 0 V to VREF. Can also be used to input an external VREF signal.", 7 GND (power) "Analog Ground. Ground reference point for all circuitry on the AD7991/AD7995/AD7999. All analog input signals should be referred to this AGND voltage.", 8 VDD (power) "Power Supply Input. The VDD range for the AD7991/AD7995/AD7999 is from 2.7 V to 5.5 V."

## AD9051BRS
designator U?
Single 10-Bit Analog-to-Digital Converter with Parallel Interface, 60MSPS, -40 to +85 degC, RS-28, Tube; Part Number: AD9051; Manufacturer: Analog Devices; Resolution (Bits): 10; Channels: 1; Throughput Rate (SPS): 60M; Interface: Par; DatasheetVersion: Rev.C; PackageVersion: 060106-A; PackageReference: RS-28; PackageDescription: 28-Lead Shrink Small Outline Package [SSOP]; RoHS: N; Packing: Tube; Mounting Technology: Surface Mount; Code_JEDEC: MO-150-AH; ComponentLink1Description: Manufacturer URL; ComponentLink1URL: http://www.analog.com/en/index.html; ComponentLink2Description: Datasheet; ComponentLink2URL: http://www.analog.com/static/imported-files/data_sheets/AD9051.pdf; ComponentLink3Description: Package Specification; ComponentLink3URL: http://www.analog.com/static/imported-files/packages/32122249223724RS_28.pdf; ComponentLink4Description: Product URL; ComponentLink4URL: http://www.analog.com/en/analog-to-digital-converters/ad-converters/ad9051/products/product.html
footprint RS-28_N (SOP, 28-Leads, Body 10.2x5.3mm, Pitch 0.65mm, IPC Medium Density)
footprint RS-28_L (SOP, 28-Leads, Body 10.2x5.3mm, Pitch 0.65mm, IPC High Density)
footprint RS-28_M (SOP, 28-Leads, Body 10.2x5.3mm, Pitch 0.65mm, IPC Low Density)
pins: 1 GND (power) "Ground", 2 VD (power) "Analog 5 V Power Supply", 3 VREFOUT (out) "Internal Bandgap Voltage Reference (Nominally 2.5 V)", 4 VREFIN (in) "Input to Reference Amplifier. Voltage reference for ADC is connected here.", 5 BWSEL (in) "Bandwidth Select. NC = 130 MHz nominal. +VD = 50 MHz nominal.", 6 GND (power) "Ground", 7 GND (power) "Ground", 8 VD (power) "Analog 5 V Power Supply", 9 AINB (in) "Complementary Analog Input Pin (Analog Input Bar)", 10 AIN (in) "Analog Input Pin", 11 VD (power) "Analog 5 V Power Supply", 12 GND (power) "Ground", 13 ENCODE (in) "Encode Clock Input to ADC. Internal T/H is placed in hold mode (ADC is encoding) on rising edge of encode signal.", 14 OR (out) "Out of Range Signal. Logic 0 when analog input is in nominal range. Logic 1 when analog input is out of nominal range", 15 D9 (MSB) (out) "Most Significant Bit of ADC Output", 16 D8 (out) "Digital Output Bits of ADC", 17 D7 (out) "Digital Output Bits of ADC", 18 D6 (out) "Digital Output Bits of ADC", 19 D5 (out) "Digital Output Bits of ADC", 20 VDD (power) "Digital Output Power Supply (Only Used by Digital Outputs)", 21 GND (power) "Ground", 22 VDD (power) "Digital Output Power Supply (Only Used by Digital Outputs)", 23 GND (power) "Ground", 24 D4 (out) "Digital Output Bits of ADC", 25 D3 (out) "Digital Output Bits of ADC", 26 D2 (out) "Digital Output Bits of ADC", 27 D1 (out) "Digital Output Bits of ADC", 28 D0 (LSB) (out) "Least Significant Bit of ADC Output"

## AD9051BRS-2V
designator U?
Single 10-Bit Analog-to-Digital Converter with Parallel Interface, 60MSPS, -40 to +85 degC, RS-28, Tube; Part Number: AD9051; Manufacturer: Analog Devices; Resolution (Bits): 10; Channels: 1; Throughput Rate (SPS): 60M; Interface: Par; DatasheetVersion: Rev.C; PackageVersion: 060106-A; PackageReference: RS-28; PackageDescription: 28-Lead Shrink Small Outline Package [SSOP]; RoHS: N; Packing: Tube; Mounting Technology: Surface Mount; Code_JEDEC: MO-150-AH; ComponentLink1Description: Manufacturer URL; ComponentLink1URL: http://www.analog.com/en/index.html; ComponentLink2Description: Datasheet; ComponentLink2URL: http://www.analog.com/static/imported-files/data_sheets/AD9051.pdf; ComponentLink3Description: Package Specification; ComponentLink3URL: http://www.analog.com/static/imported-files/packages/32122249223724RS_28.pdf; ComponentLink4Description: Product URL; ComponentLink4URL: http://www.analog.com/en/analog-to-digital-converters/ad-converters/ad9051/products/product.html
footprint RS-28_N (SOP, 28-Leads, Body 10.2x5.3mm, Pitch 0.65mm, IPC Medium Density)
footprint RS-28_L (SOP, 28-Leads, Body 10.2x5.3mm, Pitch 0.65mm, IPC High Density)
footprint RS-28_M (SOP, 28-Leads, Body 10.2x5.3mm, Pitch 0.65mm, IPC Low Density)
pins: 1 GND (power) "Ground", 2 VD (power) "Analog 5 V Power Supply", 3 VREFOUT (out) "Internal Bandgap Voltage Reference (Nominally 2.5 V)", 4 VREFIN (in) "Input to Reference Amplifier. Voltage reference for ADC is connected here.", 5 BWSEL (in) "Bandwidth Select. NC = 130 MHz nominal. +VD = 50 MHz nominal.", 6 GND (power) "Ground", 7 GND (power) "Ground", 8 VD (power) "Analog 5 V Power Supply", 9 AINB (in) "Complementary Analog Input Pin (Analog Input Bar)", 10 AIN (in) "Analog Input Pin", 11 VD (power) "Analog 5 V Power Supply", 12 GND (power) "Ground", 13 ENCODE (in) "Encode Clock Input to ADC. Internal T/H is placed in hold mode (ADC is encoding) on rising edge of encode signal.", 14 OR (out) "Out of Range Signal. Logic 0 when analog input is in nominal range. Logic 1 when analog input is out of nominal range", 15 D9 (MSB) (out) "Most Significant Bit of ADC Output", 16 D8 (out) "Digital Output Bits of ADC", 17 D7 (out) "Digital Output Bits of ADC", 18 D6 (out) "Digital Output Bits of ADC", 19 D5 (out) "Digital Output Bits of ADC", 20 VDD (power) "Digital Output Power Supply (Only Used by Digital Outputs)", 21 GND (power) "Ground", 22 VDD (power) "Digital Output Power Supply (Only Used by Digital Outputs)", 23 GND (power) "Ground", 24 D4 (out) "Digital Output Bits of ADC", 25 D3 (out) "Digital Output Bits of ADC", 26 D2 (out) "Digital Output Bits of ADC", 27 D1 (out) "Digital Output Bits of ADC", 28 D0 (LSB) (out) "Least Significant Bit of ADC Output"

## AD9051BRSRL
designator U?
Single 10-Bit Analog-to-Digital Converter with Parallel Interface, 60MSPS, -40 to +85 degC, RS-28, Reel; Part Number: AD9051; Manufacturer: Analog Devices; Resolution (Bits): 10; Channels: 1; Throughput Rate (SPS): 60M; Interface: Par; DatasheetVersion: Rev.C; PackageVersion: 060106-A; PackageReference: RS-28; PackageDescription: 28-Lead Shrink Small Outline Package [SSOP]; RoHS: N; Packing: Reel; Mounting Technology: Surface Mount; Code_JEDEC: MO-150-AH; ComponentLink1Description: Manufacturer URL; ComponentLink1URL: http://www.analog.com/en/index.html; ComponentLink2Description: Datasheet; ComponentLink2URL: http://www.analog.com/static/imported-files/data_sheets/AD9051.pdf; ComponentLink3Description: Package Specification; ComponentLink3URL: http://www.analog.com/static/imported-files/packages/32122249223724RS_28.pdf; ComponentLink4Description: Product URL; ComponentLink4URL: http://www.analog.com/en/analog-to-digital-converters/ad-converters/ad9051/products/product.html
footprint RS-28_N (SOP, 28-Leads, Body 10.2x5.3mm, Pitch 0.65mm, IPC Medium Density)
footprint RS-28_L (SOP, 28-Leads, Body 10.2x5.3mm, Pitch 0.65mm, IPC High Density)
footprint RS-28_M (SOP, 28-Leads, Body 10.2x5.3mm, Pitch 0.65mm, IPC Low Density)
pins: 1 GND (power) "Ground", 2 VD (power) "Analog 5 V Power Supply", 3 VREFOUT (out) "Internal Bandgap Voltage Reference (Nominally 2.5 V)", 4 VREFIN (in) "Input to Reference Amplifier. Voltage reference for ADC is connected here.", 5 BWSEL (in) "Bandwidth Select. NC = 130 MHz nominal. +VD = 50 MHz nominal.", 6 GND (power) "Ground", 7 GND (power) "Ground", 8 VD (power) "Analog 5 V Power Supply", 9 AINB (in) "Complementary Analog Input Pin (Analog Input Bar)", 10 AIN (in) "Analog Input Pin", 11 VD (power) "Analog 5 V Power Supply", 12 GND (power) "Ground", 13 ENCODE (in) "Encode Clock Input to ADC. Internal T/H is placed in hold mode (ADC is encoding) on rising edge of encode signal.", 14 OR (out) "Out of Range Signal. Logic 0 when analog input is in nominal range. Logic 1 when analog input is out of nominal range", 15 D9 (MSB) (out) "Most Significant Bit of ADC Output", 16 D8 (out) "Digital Output Bits of ADC", 17 D7 (out) "Digital Output Bits of ADC", 18 D6 (out) "Digital Output Bits of ADC", 19 D5 (out) "Digital Output Bits of ADC", 20 VDD (power) "Digital Output Power Supply (Only Used by Digital Outputs)", 21 GND (power) "Ground", 22 VDD (power) "Digital Output Power Supply (Only Used by Digital Outputs)", 23 GND (power) "Ground", 24 D4 (out) "Digital Output Bits of ADC", 25 D3 (out) "Digital Output Bits of ADC", 26 D2 (out) "Digital Output Bits of ADC", 27 D1 (out) "Digital Output Bits of ADC", 28 D0 (LSB) (out) "Least Significant Bit of ADC Output"